# Altium schematic symbol library CN_COAXIAL.SchLib: 1 symbol
Pins are listed as number, name and electrical type; pins without a type are passive.

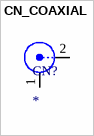
[diagram p0: symbol CN_COAXIAL]

## CN_COAXIAL
designator CN?
pins: 1 Y, 2 X